# EAGLE library part MAX682_5V_BOOST (library dan)
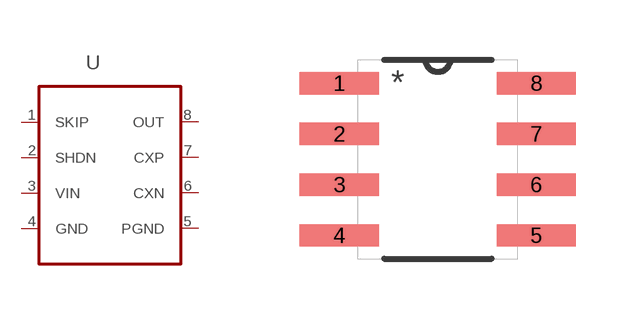
[diagram p7: symbol with the pads of SOIC-8; footprint SOIC-8]

Designator prefix -

## MAX682_5V_BOOST  [SOIC-8]
1  SKIP
2  SHDN
3  VIN
4  GND
5  PGND
6  CXN
7  CXP
8  OUT

## Footprint SOIC-8 (pad centres in mm)
smd 1.981 x 0.559: 1 -2.464,1.905; 2 -2.464,0.635; 3 -2.464,-0.635; 4 -2.464,-1.905; 5 2.464,-1.905; 6 2.464,-0.635; 7 2.464,0.635; 8 2.464,1.905